# Altium schematic symbol library IC_LM393.SchLib: 1 symbol
Pins are listed as number, name and electrical type; pins without a type are passive.

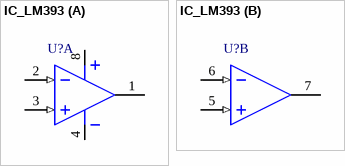
[diagram p0: symbol IC_LM393]

## IC_LM393
designator U?
part A pins: 1 OUTA (oc), 2 INA- (in), 3 INA+ (in), 4, 8
part B pins: 5 INB+ (in), 6 INB- (in), 7 OUTB (oc)